# EAGLE library part 6250XX22121_62503422121 (library WR-BHD)
WR-BHD 2.00 mm Male Characteristics Rated current: 2 A Working Voltage: 250 V UL approval: E323964 UL94-V0 Applications Industrial Production lines Details see: www.we-online.com/components/products/WTB_WR_BHD_BOX_HEADER_2_00MM_MALE Updated by Ella 2026-09-16 2026 (C) Würth Elektronik
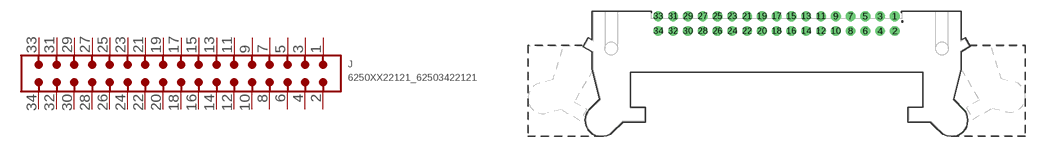
[diagram p126: symbol with the pads of 62503422121; footprint 62503422121]

Designator prefix J

## 6250XX22121_62503422121 (CATEGORY: Connectors; DATASHEET: https://www.we-online.com/redexpert/spec/62503422121?ae; GENDER: Male; LENGTH: 49.7 mm; MANUFACTURER: Würth Elektronik; MOUNT: THT; MPN: 62503422121; OPERATING_TEMPERATURE: -40 °C up to +125 °C; PACKAGING: Tray; PINS: 34; PITCH: 2mm; RATED_CURRENT: 2 A; SIZE: THT Angled; TYPE: Angled; VALUE: 62503422121; VERSION: With locking lever)  [62503422121]
1  1  pas
2  2  pas
3  3  pas
4  4  pas
5  5  pas
6  6  pas
7  7  pas
8  8  pas
9  9  pas
10  10  pas
11  11  pas
12  12  pas
13  13  pas
14  14  pas
15  15  pas
16  16  pas
17  17  pas
18  18  pas
19  19  pas
20  20  pas
21  21  pas
22  22  pas
23  23  pas
24  24  pas
25  25  pas
26  26  pas
27  27  pas
28  28  pas
29  29  pas
30  30  pas
31  31  pas
32  32  pas
33  33  pas
34  34  pas

## Footprint 62503422121 (pad centres in mm)
WR-BHD Wire-to-Board Connectors, 2mm, Male, THT Angled, 34pins
drill 0.8: 1 16,3.4; 2 16,1.4; 3 14,3.4; 4 14,1.4; 5 12,3.4; 6 12,1.4; 7 10,3.4; 8 10,1.4; 9 8,3.4; 10 8,1.4; 11 6,3.4; 12 6,1.4; 13 4,3.4; 14 4,1.4; 15 2,3.4; 16 2,1.4; 17 0,3.4; 18 0,1.4; 19 -2,3.4; 20 -2,1.4; 21 -4,3.4; 22 -4,1.4; 23 -6,3.4; 24 -6,1.4; 25 -8,3.4; 26 -8,1.4; 27 -10,3.4; 28 -10,1.4; 29 -12,3.4; 30 -12,1.4; 31 -14,3.4; 32 -14,1.4; 33 -16,3.4; 34 -16,1.4